# Altium footprint library PcbLib_Controller.PcbLib: 13 footprints
Each footprint in its own frame and in the unit in brackets; x right, y up, seen from the top. Pads: shape width x height; smd on the part's side, far side on the other; paste and mask are expansions set on the pad; w line width, h text height; cw(c..) or ccw(c..) is an arc to the next point about the centre after c.
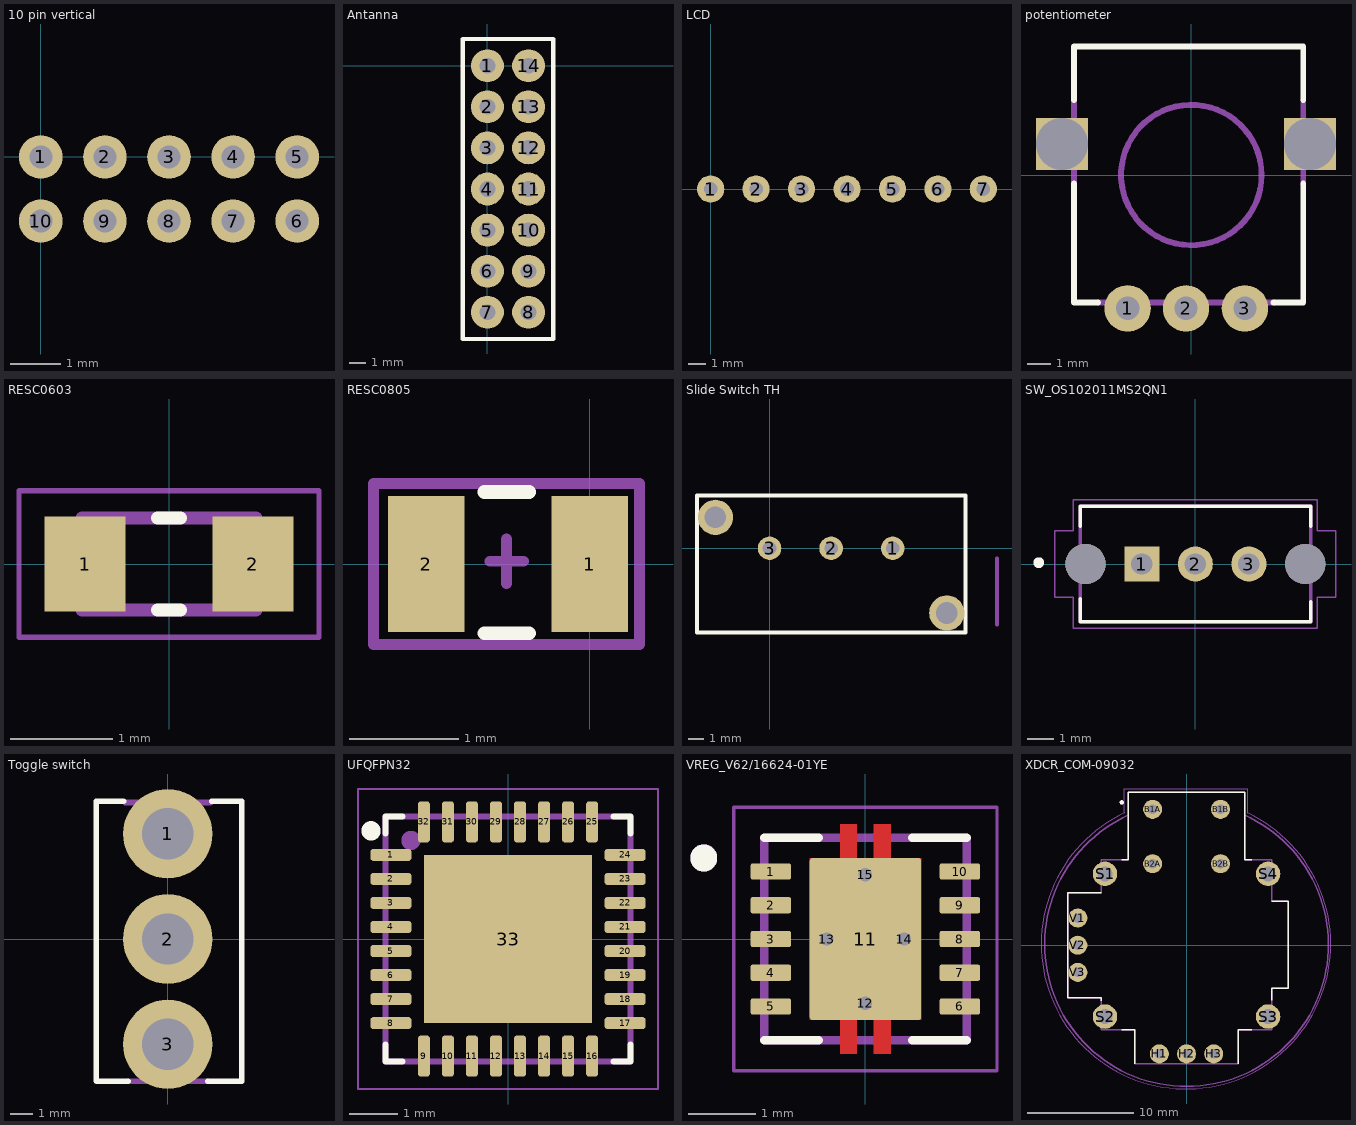
[diagram p0: the footprints below, top view; thin cyan lines are the x and y axes]

## 10 pin vertical [mil]
pads (10):
  round 34 hole 18: 1(0,0) 2(50,0) 3(100,0) 4(150,0) 5(200,0) 6(200,-50) 7(150,-50) 8(100,-50) 9(50,-50) 10(0,-50)

## Antanna [mil]
pads (14):
  round 80 hole 38: 1(0,0) 2(0,-100) 3(0,-200) 4(0,-300) 5(0,-400) 6(0,-500) 7(0,-600) 8(100,-600) 9(100,-500) 10(100,-400) 11(100,-300) 12(100,-200) 13(100,-100) 14(100,0)
Top Overlay:
  lines w10: -60,-665 -60,65 160,65 160,-665 -60,-665

## LCD [mil] "1.3 LCD Display"
pads (7):
  round 60 hole 30: 1(0,0) 2(100,0) 3(200,0) 4(300,0) 5(400,0) 6(500,0) 7(600,0)

## PCBComponent_1 [mil]

## potentiometer [mil]
pads (5):
  round 78 hole 39: 1(-107,-224) 2(-9,-224) 3(90,-224)
  rect 87x87 hole 87 square: ""(-217.5,52) ""(199.5,52)
Top Overlay:
  lines w10: -197,-14 -197,-214 -157,-214 ; -197,126 -197,216 ; -194,216 188,216 188,126 ; 138,-214 188,-214 188,-14
Mechanical 1:
  circle w10: c0,0 r118
  lines w10: -197,-14 -197,126 ; -157,-214 138,-214 ; 188,-14 188,126

## RESC0603 [mm]
pads (2):
  rect 0.79x0.93 smd: 1(-0.82,0) 2(0.82,0)
Top Overlay:
  lines w0.127: -0.11,-0.45 0.11,-0.45 ; -0.11,0.45 0.11,0.45
Mechanical 13:
  lines w0.127: -0.85,-0.45 -0.85,0.45 0.85,0.45 0.85,-0.45 -0.85,-0.45
Mechanical 15:
  lines w0.05: -1.465,-0.715 -1.465,0.715 1.465,0.715 1.465,-0.715 -1.465,-0.715

## RESC0805 [mm] "Resistor"
pads (2):
  rect 0.7x1.25 smd: 1(0,0) 2(-1.5,0)
Top Overlay:
  lines w0.127: -0.965,-0.635 -0.559,-0.635 ; -0.965,0.66 -0.559,0.66
Mechanical 15:
  lines w0.1: -0.914,0.025 -0.61,0.025 ; -0.762,-0.178 -0.762,0.229 ; -1.981,-0.737 0.457,-0.737 0.457,0.737 -1.981,0.737 -1.981,-0.737

## Slide Switch TH [mil]
pads (5):
  round 60 hole 35: 1(314,0) 2(157,0) 3(0,0)
  round 90 hole 55: ""(-138,79) ""(452,-165)
Top Overlay:
  lines w10: -185,-215 -185,135 500,135 500,-215 -185,-215
Mechanical 1:
  lines w10: 580,-195 580,-25.71

## SW_OS102011MS2QN1 [mm]
pads (5):
  rect 1.308x1.308 hole 0.8: 1(-2,0)
  round 1.308 hole 0.8: 2(0,0) 3(2,0)
  round 1.5 hole 1.5 unplated: ""(-4.1,0) ""(4.1,0)
Top Overlay:
  circle w0.2: c-5.85,0.05 r0.1
  lines w0.127: -4.3,-1.3 -4.3,-2.15 4.3,-2.15 4.3,-1.4 ; -4.3,1.4 -4.3,2.15 4.3,2.15 4.3,1.4
Mechanical 13:
  circle w0.2: c-2.1,0.05 r0.1
  lines w0.127: -4.3,-2.15 4.3,-2.15 4.3,2.15 -4.3,2.15 -4.3,-2.15
Mechanical 15:
  lines w0.05: -5.25,-1.25 -4.55,-1.25 -4.55,-2.4 4.55,-2.4 4.55,-1.25 5.25,-1.25 5.25,1.25 4.55,1.25 4.55,2.4 -4.55,2.4 -4.55,1.25 -5.25,1.25 -5.25,-1.25

## Toggle switch [mm]
pads (3):
  round 4 hole 2.286: 1(0,4.699) 2(0,0) 3(0,-4.699)
Top Overlay:
  lines w0.254: -1.978,6.15 -3.198,6.15 -3.198,-6.327 -3.175,-6.35 -1.778,-6.35 ; 1.778,-6.35 3.302,-6.35 3.302,6.15 1.959,6.15
Mechanical 1:
  lines w0.254: -1.905,6.096 1.905,6.096 ; -1.778,-6.35 1.778,-6.35

## UFQFPN32 [mm] "32-pin hidden"
pads (33):
  rrect54% 0.86x0.25 smd: 1(-2.435,1.75) 2(-2.435,1.25) 3(-2.435,0.75) 4(-2.435,0.25) 5(-2.435,-0.25) 6(-2.435,-0.75) 7(-2.435,-1.25) 8(-2.435,-1.75) 17(2.435,-1.75) 18(2.435,-1.25) 19(2.435,-0.75) 20(2.435,-0.25) 21(2.435,0.25) 22(2.435,0.75) 23(2.435,1.25) 24(2.435,1.75)
  rrect54% 0.25x0.86 smd: 9(-1.75,-2.435) 10(-1.25,-2.435) 11(-0.75,-2.435) 12(-0.25,-2.435) 13(0.25,-2.435) 14(0.75,-2.435) 15(1.25,-2.435) 16(1.75,-2.435) 25(1.75,2.435) 26(1.25,2.435) 27(0.75,2.435) 28(0.25,2.435) 29(-0.25,2.435) 30(-0.75,2.435) 31(-1.25,2.435) 32(-1.75,2.435)
  rect 3.5x3.5 smd paste-3: 33(0,0)
Top Overlay:
  circle w0.3: c-2.85,2.25 r0.05
  lines w0.127: -2.55,-2.2 -2.55,-2.55 -2.2,-2.55 ; -2.55,2.2 -2.55,2.55 -2.2,2.55 ; 2.2,-2.55 2.55,-2.55 2.55,-2.2 ; 2.2,2.55 2.55,2.55 2.55,2.2
Top Paste:
  region: -0.17,0.17 -1.413,0.17 -1.413,1.41 -0.17,1.41
  region: 1.41,0.17 0.17,0.17 0.17,1.41 1.41,1.41
  region: -0.17,-1.412 -1.412,-1.412 -1.412,-0.17 -0.17,-0.17
  region: 1.41,-1.412 0.17,-1.412 0.17,-0.17 1.41,-0.17
Mechanical 13:
  circle w0.3: c-2.02,2.05 r0.05
  lines w0.127: -2.55,-2.55 2.55,-2.55 2.55,2.55 -2.55,2.55 -2.55,-2.55
Mechanical 15:
  lines w0.05: -3.12,-3.12 3.12,-3.12 3.12,3.12 -3.12,3.12 -3.12,-3.12

## VREG_V62/16624-01YE [mm]
pads (15):
  rrect25% 0.6x0.24 smd mask+0: 1(-1.4,1) 2(-1.4,0.5) 3(-1.4,0) 4(-1.4,-0.5) 5(-1.4,-1) 6(1.4,-1) 7(1.4,-0.5) 8(1.4,0) 9(1.4,0.5) 10(1.4,1)
  rrect5% 1.65x2.4 smd paste-2 mask+0: 11(0,0)
  round 0.3 hole 0.2 mask+0: 12(0,-0.95) 13(-0.575,0) 14(0.575,0) 15(0,0.95)
Top Layer:
  region: 0.375,1.2 0.825,1.2 0.825,-1.2 0.375,-1.2 0.375,-1.7 0.125,-1.7 0.125,-1.2 -0.125,-1.2 -0.125,-1.7 -0.375,-1.7 -0.375,-1.2 -0.825,-1.2 -0.825,1.2 -0.375,1.2 -0.375,1.7 -0.125,1.7 -0.125,1.2 0.125,1.2 0.125,1.7 0.375,1.7
Top Overlay:
  circle w0.2: c-2.395,1.2 r0.1
  lines w0.127: -1.5,-1.5 -0.695,-1.5 ; -1.5,1.5 -0.695,1.5 ; 0.695,-1.5 1.5,-1.5 ; 0.695,1.5 1.5,1.5
Top Paste:
  region: 0.75,0.1 -0.75,0.1 -0.75,1.16 0.75,1.16
  region: 0.75,-1.16 -0.75,-1.16 -0.75,-0.1 0.75,-0.1
  region: 0.375,1.36 0.125,1.36 0.125,1.7 0.375,1.7
  region: -0.125,1.36 -0.375,1.36 -0.375,1.7 -0.125,1.7
  region: 0.375,-1.7 0.125,-1.7 0.125,-1.36 0.375,-1.36
  region: -0.125,-1.7 -0.375,-1.7 -0.375,-1.36 -0.125,-1.36
Top Solder:
  region: 0.445,1.27 0.895,1.27 0.895,-1.27 0.445,-1.27 0.445,-1.77 0.055,-1.77 0.055,-1.27 -0.055,-1.27 -0.055,-1.77 -0.445,-1.77 -0.445,-1.27 -0.895,-1.27 -0.895,1.27 -0.445,1.27 -0.445,1.77 -0.055,1.77 -0.055,1.27 0.055,1.27 0.055,1.77 0.445,1.77
  region: 1.77,0.81 1.03,0.81 1.03,1.19 1.77,1.19
  region: 1.77,0.31 1.03,0.31 1.03,0.69 1.77,0.69
  region: 1.77,-0.19 1.03,-0.19 1.03,0.19 1.77,0.19
  region: 1.77,-0.69 1.03,-0.69 1.03,-0.31 1.77,-0.31
  region: 1.77,-1.19 1.03,-1.19 1.03,-0.81 1.77,-0.81
  region: -1.03,-1.19 -1.77,-1.19 -1.77,-0.81 -1.03,-0.81
  region: -1.03,-0.69 -1.77,-0.69 -1.77,-0.31 -1.03,-0.31
  region: -1.03,-0.19 -1.77,-0.19 -1.77,0.19 -1.03,0.19
  region: -1.03,0.31 -1.77,0.31 -1.77,0.69 -1.03,0.69
  region: -1.03,0.81 -1.77,0.81 -1.77,1.19 -1.03,1.19
Mechanical 13:
  circle w0.2: c-2.395,1.2 r0.1
  lines w0.127: -1.5,-1.5 -1.5,1.5 1.5,1.5 1.5,-1.5 -1.5,-1.5
Mechanical 15:
  lines w0.05: -1.95,-1.95 -1.95,1.95 1.95,1.95 1.95,-1.95 -1.95,-1.95

## XDCR_COM-09032 [mil]
pads (14):
  round 70 hole 35.43: B1A(-125,500) B1B(125,500) B2A(-125,300) B2B(125,300)
  round 70 hole 35: H1(-100,-400) H2(0,-400) H3(100,-400) V1(-400,100) V2(-400,0) V3(-400,-100)
  round 90 hole 55: S1(-300,262.5) S2(-300,-262.5) S3(300,-262.5) S4(300,262.5)
Top Overlay:
  circle w7.87: c-238.19,525.59 r3.94
  lines w5: -312.99,-203.54 -312.99,-192.91 -437.01,-192.91 -437.01,192.91 -312.99,192.91 ; -238.98,-311.02 -190.94,-311.02 -190.94,-437.01 ; -238.98,314.96 -214.57,314.96 -214.57,562.99 214.57,562.99 214.57,314.96 239.37,314.96 ; 190.94,-437.01 190.94,-311.02 239.37,-311.02 ; 312.99,-201.57 312.99,-157.48 374.02,-157.48 374.02,161.42 312.99,161.42
Mechanical 13:
  circle w7.87: c-238.19,525.59 r3.94
  lines w5: -212.33,479.35 ccw(c0,2.45) 212.33,479.35 ; -437.01,-192.91 -312.99,-192.91 -312.99,-311.02 -190.94,-311.02 -190.94,-437.01 190.94,-437.01 190.94,-311.02 312.99,-311.02 312.99,-157.48 374.02,-157.48 374.02,161.42 312.99,161.42 312.99,314.96 214.57,314.96 214.57,562.99 -214.57,562.99 -214.57,314.96 -312.99,314.96 -312.99,192.91 -437.01,192.91 -437.01,-192.91
Mechanical 15:
  lines w1.97: -228.35,486.22 -228.35,574.8 224.41,574.8 224.41,486.22 ; -227.17,486.77 ccw(c-1.97,3.83) 223.23,486.77